# EAGLE library part LM2621 (library JLB6_power)
Boost switching regulator 1.2v 2MHz
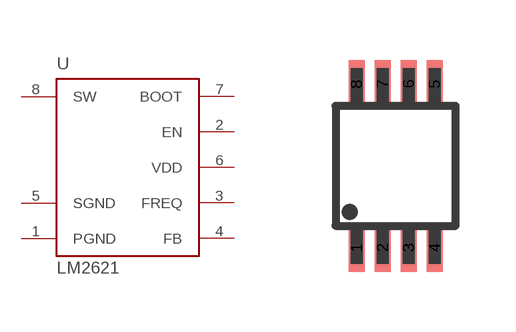
[diagram p6: symbol with the pads of MSOP8; footprint MSOP8]

Designator prefix U

## LM2621  [MSOP8]
1  PGND  pwr
2  EN
3  FREQ
4  FB  in
5  SGND  pwr
6  VDD
7  BOOT
8  SW

## Footprint MSOP8 (pad centres in mm)
smd 0.4 x 1.2: 1 -0.975,-2.05; 2 -0.325,-2.05; 3 0.325,-2.05; 4 0.975,-2.05; 5 0.975,2.05; 6 0.325,2.05; 7 -0.325,2.05; 8 -0.975,2.05